# EAGLE library part TEENSY_4.0_WITH_SMD_HEADER_PINS (library Teensy4)
Footprint for Teensy 3.1 or 3.2 board using all pin connections on the outer perimeter
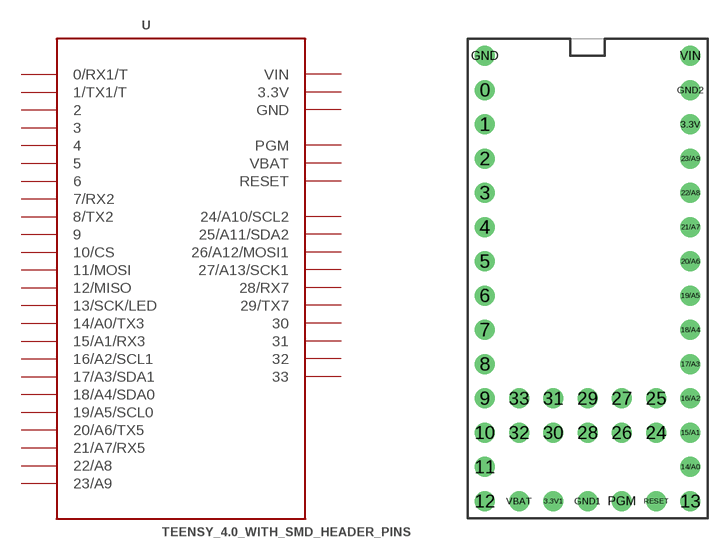
[diagram p0: symbol with the pads of TEENSY_4.0_WITH_SMD_HEADER_PINS; footprint TEENSY_4.0_WITH_SMD_HEADER_PINS]

Designator prefix -

## TEENSY_4.0_WITH_SMD_HEADER_PINS  [TEENSY_4.0_WITH_SMD_HEADER_PINS]
0  0/RX1/T
1  1/TX1/T
2  2
3  3
3.3V  3.3V  pwr
3.3V1  3.3V  pwr
4  4
5  5
6  6
7  7/RX2
8  8/TX2
9  9
10  10/CS
11  11/MOSI
12  12/MISO
13  13/SCK/LED
14/A0  14/A0/TX3
15/A1  15/A1/RX3
16/A2  16/A2/SCL1
17/A3  17/A3/SDA1
18/A4  18/A4/SDA0
19/A5  19/A5/SCL0
20/A6  20/A6/TX5
21/A7  21/A7/RX5
22/A8  22/A8
23/A9  23/A9
24  24/A10/SCL2
25  25/A11/SDA2
26  26/A12/MOSI1
27  27/A13/SCK1
28  28/RX7
29  29/TX7
30  30
31  31
32  32
33  33
GND  GND  pwr
GND1  GND  pwr
GND2  GND  pwr
PGM  PGM
RESET  RESET
VBAT  VBAT  pwr
VIN  VIN  pwr

## Footprint TEENSY_4.0_WITH_SMD_HEADER_PINS (pad centres in mm)
drill 0.965: 0 -7.62,13.97; 1 -7.62,11.43; 2 -7.62,8.89; 3 -7.62,6.35; 3.3V 7.62,11.43; 3.3V1 -2.54,-16.51; 4 -7.62,3.81; 5 -7.62,1.27; 6 -7.62,-1.27; 7 -7.62,-3.81; 8 -7.62,-6.35; 9 -7.62,-8.89; 10 -7.62,-11.43; 11 -7.62,-13.97; 12 -7.62,-16.51; 13 7.62,-16.51; 14/A0 7.62,-13.97; 15/A1 7.62,-11.43; 16/A2 7.62,-8.89; 17/A3 7.62,-6.35; 18/A4 7.62,-3.81; 19/A5 7.62,-1.27; 20/A6 7.62,1.27; 21/A7 7.62,3.81; 22/A8 7.62,6.35; 23/A9 7.62,8.89; 24 5.08,-11.43; 25 5.08,-8.89; 26 2.54,-11.43; 27 2.54,-8.89; 28 0,-11.43; 29 0,-8.89; 30 -2.54,-11.43; 31 -2.54,-8.89; 32 -5.08,-11.43; 33 -5.08,-8.89; GND -7.62,16.51; GND1 0,-16.51; GND2 7.62,13.97; PGM 2.54,-16.51; RESET 5.08,-16.51; VBAT -5.08,-16.51; VIN 7.62,16.51